# Altium footprint library WS-TOTV.PcbLib: 28 footprints (part 1 of 2)
Each footprint in its own frame and in the unit in brackets; x right, y up, seen from the top. Pads: shape width x height; smd on the part's side, far side on the other; paste and mask are expansions set on the pad; w line width, h text height; cw(c..) or ccw(c..) is an arc to the next point about the centre after c.
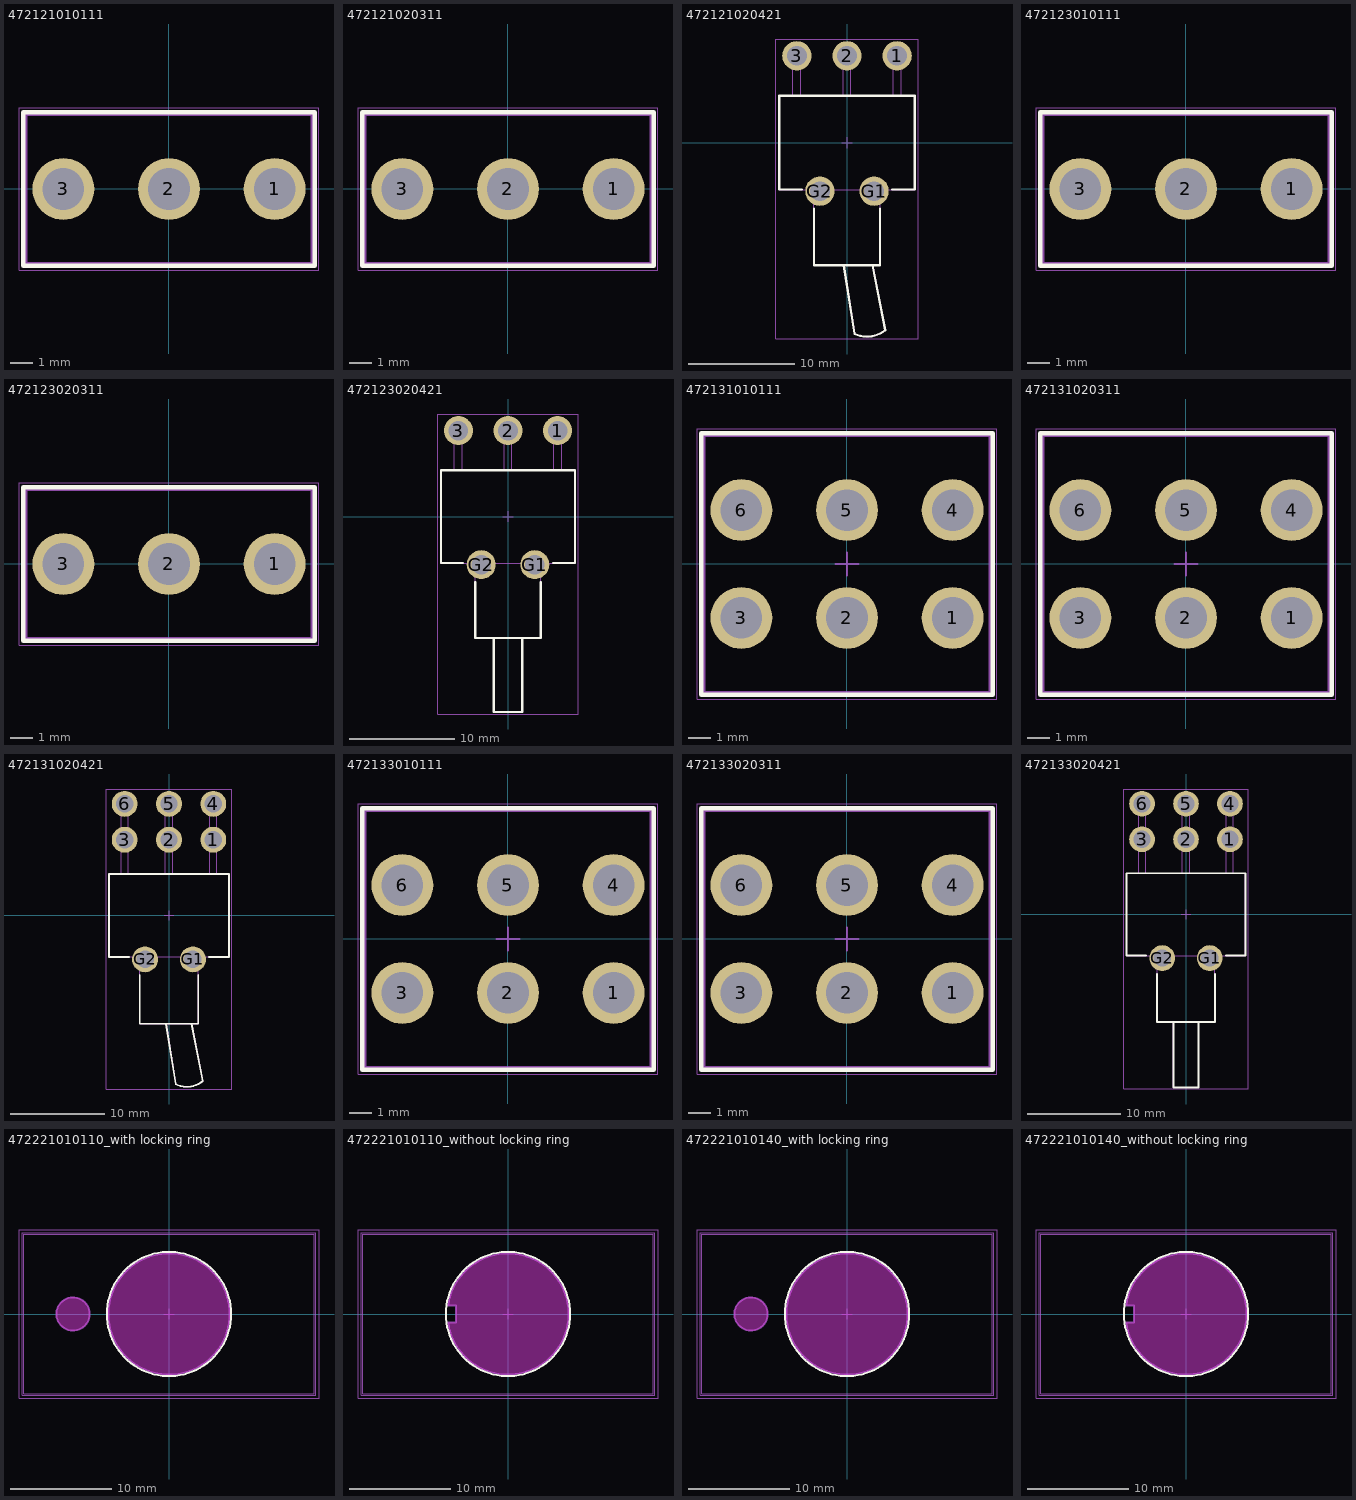
[diagram p0: the footprints below, top view; thin cyan lines are the x and y axes]

## 472121010111 [mm] "THT 6.35mm panel cut out Round actuator with Threaded keyway bushing Toggle Switch"
height 28.2
pads (3):
  round 2.75 hole 1.85: 1(4.7,0) 2(0,0) 3(-4.7,0)
Top Overlay:
  lines w0.2: -6.475,-3.425 6.475,-3.425 6.475,3.425 -6.475,3.425 -6.475,-3.425
Top Assembly:
  lines w0.1: -6.35,-3.3 6.35,-3.3 6.35,3.3 -6.35,3.3 -6.35,-3.3
Top Designator:
  text ".Designator" at -3.647,-0.357 h1
Top Courtyard:
  lines w0.05: -6.675,-3.625 6.675,-3.625 6.675,3.625 -6.675,3.625 -6.675,-3.625
Top Component Center:
  lines w0.1: -0.5,0 0.5,0 ; 0,-0.5 0,0.5
3D body "472121010111.stp": height 28.88, standoff -6.1, extent -6.35,-3.3 6.35,3.3

## 472121020311 [mm]
height 23.2
pads (3):
  round 2.75 hole 1.85: 1(4.7,0) 2(0,0) 3(-4.7,0)
Top Overlay:
  lines w0.2: -6.475,-3.425 6.475,-3.425 6.475,3.425 -6.475,3.425 -6.475,-3.425
Top Assembly:
  lines w0.1: -6.35,-3.3 6.35,-3.3 6.35,3.3 -6.35,3.3 -6.35,-3.3
Top Designator:
  text ".Designator" at -3.647,-0.357 h1
Top Courtyard:
  lines w0.05: -6.675,-3.625 6.675,-3.625 6.675,3.625 -6.675,3.625 -6.675,-3.625
Top Component Center:
  lines w0.1: -0.5,0 0.5,0 ; 0,-0.5 0,0.5
3D body "472121020311.stp": height 23.7, standoff -6.1, extent -6.35,-3.3 6.35,3.3

## 472121020421 [mm] "THT 6,35 mm panel cut out Round actuator with Plain keyway bushing Toggle Switch"
height 6.6
pads (5):
  round 2.75 hole 1.85: 1(4.7,8.15) 2(0,8.15) 3(-4.7,8.15) G1(2.54,-4.55) G2(-2.54,-4.55)
Top Overlay:
  lines w0.2: -4.25,-4.4 -6.35,-4.4 -6.35,4.4 6.35,4.4 6.35,-4.4 4.25,-4.4 ; -3.1,-6.2 -3.1,-11.5 3.1,-11.5 3.1,-6.2 ; -0.3,-11.5 0.717,-17.92 ccw(c1.891,-15.531) 3.583,-17.586 2.4,-11.5
Top Assembly:
  lines w0.1: -5.075,4.4 -5.075,8.68 -4.325,8.68 -4.325,4.4 ; -3.1,-4.4 -3.1,-11.5 3.1,-11.5 3.1,-4.4 ; -0.375,4.4 -0.375,8.68 0.375,8.68 0.375,4.4 ; -0.3,-11.5 0.717,-17.92 ccw(c1.891,-15.531) 3.583,-17.586 2.4,-11.5 ; 4.325,4.4 4.325,8.68 5.075,8.68 5.075,4.4 ; -6.35,-4.4 -6.35,4.4 6.35,4.4 6.35,-4.4 -6.35,-4.4
Top Designator:
  text ".Designator" at -3.647,-0.357 h1
Top Courtyard:
  lines w0.05: -6.675,-18.412 -6.675,9.725 6.675,9.725 6.675,-18.412 -6.675,-18.412
Top Component Center:
  lines w0.1: -0.5,0 0.5,0 ; 0,-0.5 0,0.5
3D body "472121020421.stp": height 7.15, standoff -2.57, extent -6.35,-18.212 6.35,8.68

## 472123010111 [mm] "THT 6,35 mm panel cut out"
height 28.5
pads (3):
  round 2.75 hole 1.85: 1(4.7,0) 2(0,0) 3(-4.7,0)
Top Overlay:
  lines w0.2: -6.475,-3.425 6.475,-3.425 6.475,3.425 -6.475,3.425 -6.475,-3.425
Top Assembly:
  lines w0.1: -6.35,-3.3 6.35,-3.3 6.35,3.3 -6.35,3.3 -6.35,-3.3
Top Designator:
  text ".Designator" at -3.647,-0.357 h1
Top Courtyard:
  lines w0.05: -6.675,-3.625 6.675,-3.625 6.675,3.625 -6.675,3.625 -6.675,-3.625
Top Component Center:
  lines w0.1: -0.5,0 0.5,0 ; 0,-0.5 0,0.5
3D body "472123010111.stp": height 29, standoff -6.1, extent -6.35,-3.3 6.35,3.3

## 472123020311 [mm]
height 23.4
pads (3):
  round 2.75 hole 1.85: 1(4.7,0) 2(0,0) 3(-4.7,0)
Top Overlay:
  lines w0.2: -6.475,-3.425 6.475,-3.425 6.475,3.425 -6.475,3.425 -6.475,-3.425
Top Assembly:
  lines w0.1: -6.35,-3.3 6.35,-3.3 6.35,3.3 -6.35,3.3 -6.35,-3.3
Top Designator:
  text ".Designator" at -3.647,-0.357 h1
Top Courtyard:
  lines w0.05: -6.675,-3.625 6.675,-3.625 6.675,3.625 -6.675,3.625 -6.675,-3.625
Top Component Center:
  lines w0.1: -0.5,0 0.5,0 ; 0,-0.5 0,0.5
3D body "472123020311.stp": height 23.9, standoff -6.1, extent -6.35,-3.3 6.35,3.3

## 472123020421 [mm] "THT 6.35 mm panel cut out Round actuator with Plain keyway bushing Toggle Switch"
height 23.4
pads (5):
  round 2.75 hole 1.85: 1(4.7,8.15) 2(0,8.15) 3(-4.7,8.15) G1(2.54,-4.55) G2(-2.54,-4.55)
Top Overlay:
  lines w0.2: -4.25,-4.4 -6.35,-4.4 -6.35,4.4 6.35,4.4 6.35,-4.4 4.25,-4.4 ; -3.1,-6.2 -3.1,-11.5 3.1,-11.5 3.1,-6.2 ; -1.35,-11.5 -1.35,-18.5 1.35,-18.5 1.35,-11.5
Top Assembly:
  lines w0.1: -5.075,4.4 -5.075,8.68 -4.325,8.68 -4.325,4.4 ; -3.1,-4.4 -3.1,-11.5 3.1,-11.5 3.1,-4.4 ; -1.35,-11.5 -1.35,-18.5 1.35,-18.5 1.35,-11.5 ; -0.375,4.4 -0.375,8.68 0.375,8.68 0.375,4.4 ; 4.325,4.4 4.325,8.68 5.075,8.68 5.075,4.4 ; -6.35,-4.4 6.35,-4.4 6.35,4.4 -6.35,4.4 -6.35,-4.4
Top Designator:
  text ".Designator" at -3.647,-0.357 h1
Top Courtyard:
  lines w0.05: -6.675,-18.7 6.675,-18.7 6.675,9.725 -6.675,9.725 -6.675,-18.7
Top Component Center:
  lines w0.1: -0.5,0 0.5,0 ; 0,-0.5 0,0.5
3D body "472123020421.stp": height 7.15, standoff -2.57, extent -6.35,-18.5 6.35,8.68

## 472131010111 [mm] "THT 6,35 mm panel cut out Rounded actuator with Threaded keyway bushing Toggle Switch"
height 29.6
pads (6):
  round 2.75 hole 1.85: 1(4.7,-2.4) 2(0,-2.4) 3(-4.7,-2.4) 4(4.7,2.4) 5(0,2.4) 6(-4.7,2.4)
Top Overlay:
  lines w0.2: -6.475,-5.825 -6.475,5.825 6.475,5.825 6.475,-5.825 -6.475,-5.825
Top Assembly:
  lines w0.1: -6.35,-5.7 -6.35,5.7 6.35,5.7 6.35,-5.7 -6.35,-5.7
Top Designator:
  text ".Designator" at -3.647,-0.357 h1
Top Courtyard:
  lines w0.05: -6.675,-6.025 -6.675,6.025 6.675,6.025 6.675,-6.025 -6.675,-6.025
Top Component Center:
  lines w0.1: -0.5,0 0.5,0 ; 0,-0.5 0,0.5
3D body "472131010111.stp": height 29.66, standoff -5.15, extent -6.35,-5.7 6.35,5.7

## 472131020311 [mm]
height 24.6
pads (6):
  round 2.75 hole 1.85: 1(4.7,-2.4) 2(0,-2.4) 3(-4.7,-2.4) 4(4.7,2.4) 5(0,2.4) 6(-4.7,2.4)
Top Overlay:
  lines w0.2: -6.475,-5.825 -6.475,5.825 6.475,5.825 6.475,-5.825 -6.475,-5.825
Top Assembly:
  lines w0.1: -6.35,-5.7 -6.35,5.7 6.35,5.7 6.35,-5.7 -6.35,-5.7
Top Designator:
  text ".Designator" at -3.647,-0.357 h1
Top Courtyard:
  lines w0.05: -6.675,-6.025 -6.675,6.025 6.675,6.025 6.675,-6.025 -6.675,-6.025
Top Component Center:
  lines w0.1: -0.5,0 0.5,0 ; 0,-0.5 0,0.5
3D body "472131020311.stp": height 24.78, standoff -5.55, extent -6.35,-5.7 6.35,5.7

## 472131020421 [mm] "THT 6,35 mm panel cut  out Round actuator with Plain  keyway bushing Toggle Switch"
height 11.4
pads (8):
  round 2.75 hole 1.85: 1(4.7,8.025) 2(0,8.025) 3(-4.7,8.025) 4(4.7,11.835) 5(0,11.835) 6(-4.7,11.835) G1(2.54,-4.675) G2(-2.54,-4.675)
Top Overlay:
  lines w0.2: -4.25,-4.4 -6.35,-4.4 -6.35,4.4 6.35,4.4 6.35,-4.4 4.25,-4.4 ; -3.1,-6.3 -3.1,-11.5 3.1,-11.5 3.1,-6.3 ; -0.3,-11.5 0.717,-17.92 ccw(c1.891,-15.531) 3.583,-17.586 2.4,-11.5
Top Assembly:
  lines w0.1: -5.075,4.4 -5.075,12.465 -4.325,12.465 -4.325,4.4 ; -5.075,8.655 -4.325,8.655 ; -3.1,-4.4 -3.1,-11.5 3.1,-11.5 3.1,-4.4 ; -0.375,4.4 -0.375,12.465 0.375,12.465 0.375,4.4 ; -0.375,8.655 0.375,8.655 ; -0.3,-11.5 0.717,-17.92 ccw(c1.891,-15.531) 3.583,-17.586 2.4,-11.5 ; 4.325,4.4 4.325,12.465 5.075,12.465 5.075,4.4 ; 4.325,8.655 5.075,8.655 ; -6.35,-4.4 -6.35,4.4 6.35,4.4 6.35,-4.4 -6.35,-4.4
Top Designator:
  text ".Designator" at -3.647,-0.357 h1
Top Courtyard:
  lines w0.05: -6.675,-18.43 6.675,-18.43 6.675,13.41 -6.675,13.41 -6.675,-18.43
Top Component Center:
  lines w0.1: -0.5,0 0.5,0 ; 0,-0.5 0,0.5
3D body "472131020421.stp": height 11.5, standoff -2.91, extent -6.35,-18.23 6.35,12.465

## 472133010111 [mm]
height 29.9
pads (6):
  round 2.75 hole 1.85: 1(4.7,-2.4) 2(0,-2.4) 3(-4.7,-2.4) 4(4.7,2.4) 5(0,2.4) 6(-4.7,2.4)
Top Overlay:
  lines w0.2: -6.475,-5.825 -6.475,5.825 6.475,5.825 6.475,-5.825 -6.475,-5.825
Top Assembly:
  lines w0.1: -6.35,-5.7 -6.35,5.7 6.35,5.7 6.35,-5.7 -6.35,-5.7
Top Designator:
  text ".Designator" at -3.647,-0.357 h1
Top Courtyard:
  lines w0.05: -6.675,-6.025 -6.675,6.025 6.675,6.025 6.675,-6.025 -6.675,-6.025
Top Component Center:
  lines w0.1: -0.5,0 0.5,0 ; 0,-0.5 0,0.5
3D body "472133010111.stp": height 29.95, standoff -5.55, extent -6.35,-5.7 6.35,5.7

## 472133020311 [mm]
height 24.8
pads (6):
  round 2.75 hole 1.85: 1(4.7,-2.4) 2(0,-2.4) 3(-4.7,-2.4) 4(4.7,2.4) 5(0,2.4) 6(-4.7,2.4)
Top Overlay:
  lines w0.2: -6.475,-5.825 6.475,-5.825 6.475,5.825 -6.475,5.825 -6.475,-5.825
Top Assembly:
  lines w0.1: -6.35,-5.7 6.35,-5.7 6.35,5.7 -6.35,5.7 -6.35,-5.7
Top Designator:
  text ".Designator" at -3.647,-0.357 h1
Top Courtyard:
  lines w0.05: -6.675,-6.025 6.675,-6.025 6.675,6.025 -6.675,6.025 -6.675,-6.025
Top Component Center:
  lines w0.1: -0.5,0 0.5,0 ; 0,-0.5 0,0.5
3D body "472133020311.stp": height 24.85, standoff -5.55, extent -6.35,-5.7 6.35,5.7

## 472133020421 [mm] "THT 6.35 mm panel cut out Round actuator with Plain keyway bushing Toggle Switch"
height 11.4
pads (8):
  round 2.75 hole 1.85: 1(4.7,8.025) 2(0,8.025) 3(-4.7,8.025) 4(4.7,11.835) 5(0,11.835) 6(-4.7,11.835) G1(2.54,-4.675) G2(-2.54,-4.675)
Top Overlay:
  lines w0.2: -4.25,-4.4 -6.35,-4.4 -6.35,4.4 6.35,4.4 6.35,-4.4 4.25,-4.4 ; -3.1,-6.35 -3.1,-11.5 3.1,-11.5 3.1,-6.35 ; -1.35,-11.5 -1.35,-18.5 1.35,-18.5 1.35,-11.5
Top Assembly:
  lines w0.1: -5.075,4.4 -5.075,12.465 -4.325,12.465 -4.325,4.4 ; -5.075,8.655 -4.325,8.655 ; -3.1,-4.4 -3.1,-11.5 3.1,-11.5 3.1,-4.4 ; -1.35,-11.5 -1.35,-18.5 1.35,-18.5 1.35,-11.5 ; -0.375,4.4 -0.375,12.465 0.375,12.465 0.375,4.4 ; -0.375,8.655 0.375,8.655 ; 4.325,4.4 4.325,12.465 5.075,12.465 5.075,4.4 ; 4.325,8.655 5.075,8.655 ; -6.35,-4.4 6.35,-4.4 6.35,4.4 -6.35,4.4 -6.35,-4.4
Top Designator:
  text ".Designator" at -3.647,-0.357 h1
Top Courtyard:
  lines w0.05: -6.675,-18.675 -6.675,13.41 6.675,13.41 6.675,-18.675 -6.675,-18.675
Top Component Center:
  lines w0.1: -0.5,0 0.5,0 ; 0,-0.5 0,0.5
3D body "472133020421.stp": height 11.5, standoff -2.91, extent -6.35,-18.475 6.35,12.465

## 472221010110_with locking ring [mm]
height 50
Top Overlay:
  circle w0.2: c0,0 r6.15
Bottom Overlay:
  lines w0.2: -14.65,-8.15 -14.65,8.15 14.65,8.15 14.65,-8.15 -14.65,-8.15
Keep-Out Layer:
  board cut-out: 0,-6 -0.295,-6 -0.881,-5.942 -1.46,-5.827 -2.024,-5.656 -2.568,-5.43 -3.088,-5.153 -3.579,-4.825 -4.034,-4.451 -4.451,-4.034 -4.825,-3.579 -5.153,-3.088 -5.43,-2.568 -5.656,-2.024 -5.827,-1.46 -5.942,-0.881 -6,-0.295 -6,0 -6,0.295 -5.942,0.881 -5.827,1.46 -5.656,2.024 -5.43,2.568 -5.153,3.088 -4.825,3.579 -4.451,4.034 -4.034,4.451 -3.579,4.825 -3.088,5.153 -2.568,5.43 -2.024,5.656 -1.46,5.827 -0.881,5.942 -0.295,6 0,6 0.295,6 0.881,5.942 1.46,5.827 2.024,5.656 2.568,5.43 3.088,5.153 3.579,4.825 4.034,4.451 4.451,4.034 4.825,3.579 5.153,3.088 5.43,2.568 5.656,2.024 5.827,1.46 5.942,0.881 6,0.295 6,0 6,-0.295 5.942,-0.881 5.827,-1.46 5.656,-2.024 5.43,-2.568 5.153,-3.088 4.825,-3.579 4.451,-4.034 4.034,-4.451 3.579,-4.825 3.088,-5.153 2.568,-5.43 2.024,-5.656 1.46,-5.827 0.881,-5.942 0.295,-6
  board cut-out: -9.5,-1.65 -9.663,-1.65 -9.981,-1.587 -10.282,-1.462 -10.552,-1.282 -10.782,-1.052 -10.962,-0.782 -11.087,-0.481 -11.15,-0.163 -11.15,0 -11.15,0.163 -11.087,0.481 -10.962,0.782 -10.782,1.052 -10.552,1.282 -10.282,1.462 -9.981,1.587 -9.663,1.65 -9.5,1.65 -9.337,1.65 -9.019,1.587 -8.718,1.462 -8.448,1.282 -8.218,1.052 -8.038,0.782 -7.913,0.481 -7.85,0.163 -7.85,0 -7.85,-0.163 -7.913,-0.481 -8.038,-0.782 -8.218,-1.052 -8.448,-1.282 -8.718,-1.462 -9.019,-1.587 -9.337,-1.65
Board Shape:
  circle w0.2: c0,0 r6
  circle w0.2: c-9.5,0 r1.65
Bottom Assembly (Mech10):
  lines w0.1: -14.55,-8.05 -14.55,8.05 14.55,8.05 14.55,-8.05 -14.55,-8.05
Top Designator:
  text ".Designator" at -3.647,-0.357 h1
Top 3D Body:
  lines w0.1: -14.4,-7.9 -14.4,7.9 14.4,7.9 14.4,-7.9 -14.4,-7.9
Bottom Courtyard:
  lines w0.05: -14.85,-8.35 14.85,-8.35 14.85,8.35 -14.85,8.35 -14.85,-8.35
Top Component Center:
  lines w0.1: -0.5,0 0.5,0 ; 0,-0.5 0,0.5
3D body "472221010110.stp": height 28.63, standoff -32.1, extent -14.4,-7.9 14.4,7.9

## 472221010110_without locking ring [mm]
height 50
Top Overlay:
  circle w0.2: c0,0 r6.15
Bottom Overlay:
  lines w0.2: -14.65,-8.15 14.65,-8.15 14.65,8.15 -14.65,8.15 -14.65,-8.15
Keep-Out Layer:
  board cut-out: -5.939,-0.85 -5.886,-1.222 -5.688,-1.946 -5.401,-2.64 -5.03,-3.292 -4.58,-3.894 -4.059,-4.434 -3.475,-4.906 -2.836,-5.301 -2.153,-5.613 -1.437,-5.837 -0.698,-5.971 0.052,-6.012 0.801,-5.958 1.537,-5.812 2.249,-5.575 2.927,-5.251 3.559,-4.845 4.135,-4.364 4.647,-3.815 5.086,-3.206 5.446,-2.547 5.721,-1.848 5.906,-1.12 6,-0.375 6,0.375 5.906,1.12 5.721,1.848 5.446,2.547 5.086,3.206 4.647,3.815 4.135,4.364 3.559,4.845 2.927,5.251 2.249,5.575 1.537,5.812 0.801,5.958 0.052,6.012 -0.698,5.971 -1.437,5.837 -2.153,5.613 -2.836,5.301 -3.475,4.906 -4.059,4.434 -4.58,3.894 -5.03,3.292 -5.401,2.64 -5.688,1.946 -5.886,1.222 -5.939,0.85 -5.139,0.85 -5.139,-0.85
Board Shape:
  lines w0.2: -5.939,-0.85 ccw(c0,0) -5.939,0.85 -5.139,0.85 -5.139,-0.85 -5.939,-0.85
Bottom Assembly (Mech10):
  lines w0.1: -14.55,-8.05 14.55,-8.05 14.55,8.05 -14.55,8.05 -14.55,-8.05
Top Designator:
  text ".Designator" at -3.647,-0.357 h1
Top 3D Body:
  lines w0.1: -14.4,-7.9 14.4,-7.9 14.4,7.9 -14.4,7.9 -14.4,-7.9
Bottom Courtyard:
  lines w0.05: -14.85,-8.35 -14.85,8.35 14.85,8.35 14.85,-8.35 -14.85,-8.35
Top Component Center:
  lines w0.1: -0.5,0 0.5,0 ; 0,-0.5 0,0.5
3D body "472221010110.stp": height 28.63, standoff -32.1, extent -14.4,-7.9 14.4,7.9

## 472221010140_with locking ring [mm]
height 50
Top Overlay:
  circle w0.2: c0,0 r6.15
Bottom Overlay:
  lines w0.2: -14.65,-8.15 14.65,-8.15 14.65,8.15 -14.65,8.15 -14.65,-8.15
Keep-Out Layer:
  board cut-out: -9.5,-1.65 -9.663,-1.65 -9.981,-1.587 -10.282,-1.462 -10.552,-1.282 -10.782,-1.052 -10.962,-0.782 -11.087,-0.481 -11.15,-0.163 -11.15,0 -11.15,0.163 -11.087,0.481 -10.962,0.782 -10.782,1.052 -10.552,1.282 -10.282,1.462 -9.981,1.587 -9.663,1.65 -9.5,1.65 -9.337,1.65 -9.019,1.587 -8.718,1.462 -8.448,1.282 -8.218,1.052 -8.038,0.782 -7.913,0.481 -7.85,0.163 -7.85,0 -7.85,-0.163 -7.913,-0.481 -8.038,-0.782 -8.218,-1.052 -8.448,-1.282 -8.718,-1.462 -9.019,-1.587 -9.337,-1.65
  board cut-out: 0,-6 -0.295,-6 -0.881,-5.942 -1.46,-5.827 -2.024,-5.656 -2.568,-5.43 -3.088,-5.153 -3.579,-4.825 -4.034,-4.451 -4.451,-4.034 -4.825,-3.579 -5.153,-3.088 -5.43,-2.568 -5.656,-2.024 -5.827,-1.46 -5.942,-0.881 -6,-0.295 -6,0 -6,0.295 -5.942,0.881 -5.827,1.46 -5.656,2.024 -5.43,2.568 -5.153,3.088 -4.825,3.579 -4.451,4.034 -4.034,4.451 -3.579,4.825 -3.088,5.153 -2.568,5.43 -2.024,5.656 -1.46,5.827 -0.881,5.942 -0.295,6 0,6 0.295,6 0.881,5.942 1.46,5.827 2.024,5.656 2.568,5.43 3.088,5.153 3.579,4.825 4.034,4.451 4.451,4.034 4.825,3.579 5.153,3.088 5.43,2.568 5.656,2.024 5.827,1.46 5.942,0.881 6,0.295 6,0 6,-0.295 5.942,-0.881 5.827,-1.46 5.656,-2.024 5.43,-2.568 5.153,-3.088 4.825,-3.579 4.451,-4.034 4.034,-4.451 3.579,-4.825 3.088,-5.153 2.568,-5.43 2.024,-5.656 1.46,-5.827 0.881,-5.942 0.295,-6
Board Shape:
  circle w0.2: c-9.5,0 r1.65
  circle w0.2: c0,0 r6
Bottom Assembly (Mech10):
  lines w0.1: -14.55,-8.05 14.55,-8.05 14.55,8.05 -14.55,8.05 -14.55,-8.05
Top Designator:
  text ".Designator" at -3.647,-0.357 h1
Top 3D Body:
  lines w0.1: -14.4,-7.9 14.4,-7.9 14.4,7.9 -14.4,7.9 -14.4,-7.9
Bottom Courtyard:
  lines w0.05: -14.85,-8.35 -14.85,8.35 14.85,8.35 14.85,-8.35 -14.85,-8.35
Top Component Center:
  lines w0.1: -0.5,0 0.5,0 ; 0,-0.5 0,0.5
3D body "472221010140.stp": height 29, standoff -29.9, extent -14.4,-7.9 14.4,7.9

## 472221010140_without locking ring [mm]
height 50
Top Overlay:
  circle w0.2: c0,0 r6.15
Bottom Overlay:
  lines w0.2: -14.65,-8.15 -14.65,8.15 14.65,8.15 14.65,-8.15 -14.65,-8.15
Keep-Out Layer:
  board cut-out: -5.939,-0.85 -5.886,-1.222 -5.688,-1.946 -5.401,-2.64 -5.03,-3.292 -4.58,-3.894 -4.059,-4.434 -3.475,-4.906 -2.836,-5.301 -2.153,-5.613 -1.437,-5.837 -0.698,-5.971 0.052,-6.012 0.801,-5.958 1.537,-5.812 2.249,-5.575 2.927,-5.251 3.559,-4.845 4.135,-4.364 4.647,-3.815 5.086,-3.206 5.446,-2.547 5.721,-1.848 5.906,-1.12 6,-0.375 6,0.375 5.906,1.12 5.721,1.848 5.446,2.547 5.086,3.206 4.647,3.815 4.135,4.364 3.559,4.845 2.927,5.251 2.249,5.575 1.537,5.812 0.801,5.958 0.052,6.012 -0.698,5.971 -1.437,5.837 -2.153,5.613 -2.836,5.301 -3.475,4.906 -4.059,4.434 -4.58,3.894 -5.03,3.292 -5.401,2.64 -5.688,1.946 -5.886,1.222 -5.939,0.85 -5.139,0.85 -5.139,-0.85
Board Shape:
  lines w0.2: -5.939,-0.85 ccw(c0,0) -5.939,0.85 -5.139,0.85 -5.139,-0.85 -5.939,-0.85
Bottom Assembly (Mech10):
  lines w0.1: -14.55,-8.05 -14.55,8.05 14.55,8.05 14.55,-8.05 -14.55,-8.05
Top Designator:
  text ".Designator" at -3.647,-0.357 h1
Top 3D Body:
  lines w0.1: -14.4,-7.9 -14.4,7.9 14.4,7.9 14.4,-7.9 -14.4,-7.9
Bottom Courtyard:
  lines w0.05: -14.85,-8.35 14.85,-8.35 14.85,8.35 -14.85,8.35 -14.85,-8.35
Top Component Center:
  lines w0.1: -0.5,0 0.5,0 ; 0,-0.5 0,0.5
3D body "472221010140.stp": height 29, standoff -29.9, extent -14.4,-7.9 14.4,7.9